# Altium footprint library branding.PcbLib: 2 footprints
Each footprint in its own frame and in the unit in brackets; x right, y up, seen from the top. Pads: shape width x height; smd on the part's side, far side on the other; paste and mask are expansions set on the pad; w line width, h text height; cw(c..) or ccw(c..) is an arc to the next point about the centre after c.
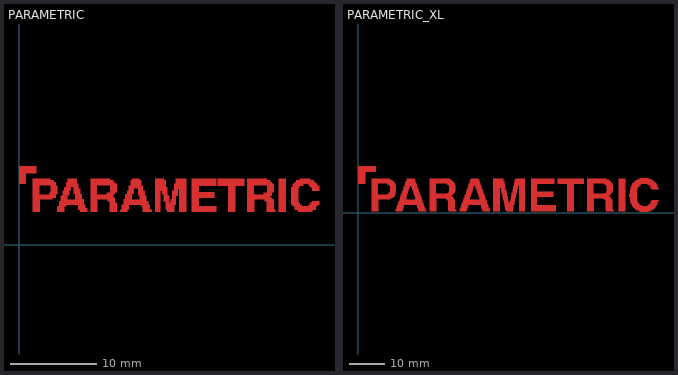
[diagram p0: the footprints below, top view; thin cyan lines are the x and y axes]

## PARAMETRIC [mm]
Top Layer:
  region: 19.507,7.482 19.507,7.279 19.507,7.076 19.507,6.872 19.507,6.669 19.507,6.466 19.507,6.263 19.507,6.06 19.507,5.856 19.507,5.653 19.507,5.45 19.507,5.247 19.507,5.044 19.507,4.84 19.507,4.637 19.507,4.434 19.507,4.231 19.507,4.028 19.507,3.824 18.694,3.824 18.694,4.028 18.694,4.231 18.694,4.434 18.694,4.637 18.694,4.84 18.694,5.044 18.694,5.247 18.694,5.45 18.694,5.653 18.694,5.856 18.694,6.06 18.694,6.263 18.694,6.466 18.491,6.466 18.491,6.263 18.491,6.06 18.491,5.856 18.491,5.653 18.288,5.653 18.288,5.45 18.288,5.247 18.288,5.044 18.288,4.84 18.288,4.637 18.085,4.637 18.085,4.434 18.085,4.231 18.085,4.028 18.085,3.824 17.272,3.824 17.272,4.028 17.069,4.028 17.069,4.231 17.069,4.434 17.069,4.637 17.069,4.84 17.069,5.044 16.866,5.044 16.866,5.247 16.866,5.45 16.866,5.653 16.866,5.856 16.662,5.856 16.662,6.06 16.662,6.263 16.459,6.263 16.459,6.06 16.459,5.856 16.459,5.653 16.459,5.45 16.459,5.247 16.459,5.044 16.459,4.84 16.459,4.637 16.459,4.434 16.459,4.231 16.459,4.028 16.459,3.824 15.85,3.824 15.85,4.028 15.85,4.231 15.85,4.434 15.85,4.637 15.85,4.84 15.85,5.044 15.85,5.247 15.85,5.45 15.85,5.653 15.85,5.856 15.85,6.06 15.85,6.263 15.85,6.466 15.85,6.669 15.85,6.872 15.85,7.076 15.85,7.279 15.85,7.482 15.85,7.685 16.866,7.685 16.866,7.482 17.069,7.482 17.069,7.279 17.069,7.076 17.069,6.872 17.069,6.669 17.272,6.669 17.272,6.466 17.272,6.263 17.272,6.06 17.272,5.856 17.272,5.653 17.475,5.653 17.475,5.45 17.475,5.247 17.475,5.044 17.475,4.84 17.678,4.84 17.678,5.044 17.678,5.247 17.882,5.247 17.882,5.45 17.882,5.653 17.882,5.856 17.882,6.06 17.882,6.263 18.085,6.263 18.085,6.466 18.085,6.669 18.085,6.872 18.085,7.076 18.288,7.076 18.288,7.279 18.288,7.482 18.288,7.685 19.507,7.685
  region: 28.854,7.482 29.261,7.482 29.261,7.279 29.464,7.279 29.464,7.076 29.667,7.076 29.667,6.872 29.667,6.669 29.667,6.466 29.667,6.263 29.667,6.06 29.464,6.06 29.464,5.856 29.464,5.653 29.261,5.653 29.261,5.45 29.464,5.45 29.464,5.247 29.667,5.247 29.667,5.044 29.667,4.84 29.667,4.637 29.667,4.434 29.667,4.231 29.667,4.028 29.87,4.028 29.87,3.824 28.854,3.824 28.854,4.028 28.854,4.231 28.854,4.434 28.854,4.637 28.854,4.84 28.854,5.044 28.651,5.044 28.651,5.247 27.432,5.247 27.432,5.044 27.432,4.84 27.432,4.637 27.432,4.434 27.432,4.231 27.432,4.028 27.432,3.824 26.619,3.824 26.619,4.028 26.619,4.231 26.619,4.434 26.619,4.637 26.619,4.84 26.619,5.044 26.619,5.247 26.619,5.45 26.619,5.653 26.619,5.856 26.619,6.06 26.619,6.263 26.619,6.466 26.619,6.669 26.619,6.872 26.619,7.076 26.619,7.279 26.619,7.482 26.619,7.685 28.854,7.685 hole: 28.854,6.872 27.432,6.872 27.432,6.669 27.432,6.466 27.432,6.263 27.432,6.06 27.432,5.856 28.448,5.856 28.448,6.06 28.854,6.06 28.854,6.263 28.854,6.466 28.854,6.669
  region: 10.566,7.482 10.973,7.482 10.973,7.279 11.176,7.279 11.176,7.076 11.379,7.076 11.379,6.872 11.379,6.669 11.379,6.466 11.379,6.263 11.379,6.06 11.176,6.06 11.176,5.856 10.973,5.856 10.973,5.653 10.973,5.45 11.176,5.45 11.176,5.247 11.176,5.044 11.176,4.84 11.379,4.84 11.379,4.637 11.379,4.434 11.379,4.231 11.379,4.028 11.379,3.824 10.566,3.824 10.566,4.028 10.566,4.231 10.566,4.434 10.566,4.637 10.566,4.84 10.566,5.044 10.363,5.044 10.363,5.247 9.144,5.247 9.144,5.044 9.144,4.84 9.144,4.637 9.144,4.434 9.144,4.231 9.144,4.028 9.144,3.824 8.331,3.824 8.331,4.028 8.331,4.231 8.331,4.434 8.331,4.637 8.331,4.84 8.331,5.044 8.331,5.247 8.331,5.45 8.331,5.653 8.331,5.856 8.331,6.06 8.331,6.263 8.331,6.466 8.331,6.669 8.331,6.872 8.331,7.076 8.331,7.279 8.331,7.482 8.331,7.685 10.566,7.685 hole: 10.566,6.872 9.144,6.872 9.144,6.669 9.144,6.466 9.144,6.263 9.144,6.06 9.144,5.856 10.16,5.856 10.16,6.06 10.566,6.06 10.566,6.263 10.566,6.466 10.566,6.669
  region: 3.658,7.482 4.064,7.482 4.064,7.279 4.267,7.279 4.267,7.076 4.267,6.872 4.47,6.872 4.47,6.669 4.47,6.466 4.47,6.263 4.47,6.06 4.47,5.856 4.267,5.856 4.267,5.653 4.267,5.45 3.861,5.45 3.861,5.247 2.438,5.247 2.438,5.044 2.438,4.84 2.438,4.637 2.438,4.434 2.438,4.231 2.438,4.028 2.438,3.824 1.626,3.824 1.626,4.028 1.626,4.231 1.626,4.434 1.626,4.637 1.626,4.84 1.626,5.044 1.626,5.247 1.626,5.45 1.626,5.653 1.626,5.856 1.626,6.06 1.626,6.263 1.626,6.466 1.626,6.669 1.626,6.872 1.626,7.076 1.626,7.279 1.626,7.482 1.626,7.685 3.658,7.685 hole: 3.658,6.872 2.438,6.872 2.438,6.669 2.438,6.466 2.438,6.263 2.438,6.06 2.438,5.856 3.454,5.856 3.454,6.06 3.658,6.06 3.658,6.263 3.658,6.466 3.658,6.669
  region: 6.706,7.482 6.706,7.279 6.706,7.076 6.909,7.076 6.909,6.872 6.909,6.669 6.909,6.466 7.112,6.466 7.112,6.263 7.112,6.06 7.112,5.856 7.315,5.856 7.315,5.653 7.315,5.45 7.315,5.247 7.518,5.247 7.518,5.044 7.518,4.84 7.518,4.637 7.722,4.637 7.722,4.434 7.722,4.231 7.925,4.231 7.925,4.028 7.925,3.824 7.112,3.824 7.112,4.028 6.909,4.028 6.909,4.231 6.909,4.434 6.909,4.637 5.486,4.637 5.486,4.434 5.283,4.434 5.283,4.231 5.283,4.028 5.283,3.824 4.47,3.824 4.47,4.028 4.47,4.231 4.47,4.434 4.674,4.434 4.674,4.637 4.674,4.84 4.674,5.044 4.877,5.044 4.877,5.247 4.877,5.45 4.877,5.653 5.08,5.653 5.08,5.856 5.08,6.06 5.08,6.263 5.283,6.263 5.283,6.466 5.283,6.669 5.486,6.669 5.486,6.872 5.486,7.076 5.486,7.279 5.69,7.279 5.69,7.482 5.69,7.685 6.706,7.685 hole: 6.299,6.669 6.096,6.669 6.096,6.466 6.096,6.263 5.893,6.263 5.893,6.06 5.893,5.856 5.893,5.653 5.69,5.653 5.69,5.45 5.69,5.247 6.502,5.247 6.502,5.45 6.502,5.653 6.502,5.856 6.299,5.856 6.299,6.06 6.299,6.263 6.299,6.466
  region: 14.021,7.482 14.224,7.482 14.224,7.279 14.224,7.076 14.224,6.872 14.427,6.872 14.427,6.669 14.427,6.466 14.427,6.263 14.63,6.263 14.63,6.06 14.63,5.856 14.63,5.653 14.834,5.653 14.834,5.45 14.834,5.247 14.834,5.044 15.037,5.044 15.037,4.84 15.037,4.637 15.24,4.637 15.24,4.434 15.24,4.231 15.24,4.028 15.443,4.028 15.443,3.824 14.427,3.824 14.427,4.028 14.427,4.231 14.427,4.434 14.224,4.434 14.224,4.637 12.802,4.637 12.802,4.434 12.802,4.231 12.802,4.028 12.598,4.028 12.598,3.824 11.786,3.824 11.786,4.028 11.989,4.028 11.989,4.231 11.989,4.434 11.989,4.637 12.192,4.637 12.192,4.84 12.192,5.044 12.192,5.247 12.395,5.247 12.395,5.45 12.395,5.653 12.395,5.856 12.598,5.856 12.598,6.06 12.598,6.263 12.802,6.263 12.802,6.466 12.802,6.669 12.802,6.872 13.005,6.872 13.005,7.076 13.005,7.279 13.005,7.482 13.208,7.482 13.208,7.685 14.021,7.685 hole: 13.818,6.466 13.411,6.466 13.411,6.263 13.411,6.06 13.411,5.856 13.208,5.856 13.208,5.653 13.208,5.45 13.208,5.247 14.021,5.247 14.021,5.45 14.021,5.653 13.818,5.653 13.818,5.856 13.818,6.06 13.818,6.263
  region: 22.962,7.482 22.962,7.279 22.962,7.076 22.962,6.872 20.93,6.872 20.93,6.669 20.93,6.466 20.93,6.263 20.93,6.06 22.758,6.06 22.758,5.856 22.758,5.653 22.758,5.45 20.93,5.45 20.93,5.247 20.93,5.044 20.93,4.84 20.93,4.637 20.93,4.434 22.962,4.434 22.962,4.231 22.962,4.028 22.962,3.824 20.117,3.824 20.117,4.028 20.117,4.231 20.117,4.434 20.117,4.637 20.117,4.84 20.117,5.044 20.117,5.247 20.117,5.45 20.117,5.653 20.117,5.856 20.117,6.06 20.117,6.263 20.117,6.466 20.117,6.669 20.117,6.872 20.117,7.076 20.117,7.279 20.117,7.482 20.117,7.685 22.962,7.685
  region: 33.934,7.482 34.341,7.482 34.341,7.279 34.544,7.279 34.544,7.076 34.747,7.076 34.747,6.872 34.95,6.872 34.95,6.669 34.95,6.466 34.95,6.263 34.138,6.263 34.138,6.466 34.138,6.669 33.934,6.669 33.934,6.872 33.731,6.872 33.731,7.076 33.122,7.076 33.122,6.872 32.715,6.872 32.715,6.669 32.512,6.669 32.512,6.466 32.512,6.263 32.512,6.06 32.512,5.856 32.512,5.653 32.512,5.45 32.512,5.247 32.512,5.044 32.512,4.84 32.715,4.84 32.715,4.637 32.918,4.637 32.918,4.434 33.731,4.434 33.731,4.637 33.934,4.637 33.934,4.84 34.138,4.84 34.138,5.044 34.95,5.044 34.95,4.84 34.95,4.637 34.747,4.637 34.747,4.434 34.544,4.434 34.544,4.231 34.544,4.028 34.138,4.028 34.138,3.824 32.512,3.824 32.512,4.028 32.106,4.028 32.106,4.231 32.106,4.434 31.902,4.434 31.902,4.637 31.699,4.637 31.699,4.84 31.699,5.044 31.699,5.247 31.699,5.45 31.699,5.653 31.699,5.856 31.699,6.06 31.699,6.263 31.699,6.466 31.699,6.669 31.902,6.669 31.902,6.872 31.902,7.076 32.106,7.076 32.106,7.279 32.309,7.279 32.309,7.482 32.715,7.482 32.715,7.685 33.934,7.685
  region: 26.213,7.482 26.213,7.279 26.213,7.076 26.213,6.872 25.197,6.872 25.197,6.669 25.197,6.466 25.197,6.263 25.197,6.06 25.197,5.856 25.197,5.653 25.197,5.45 25.197,5.247 25.197,5.044 25.197,4.84 25.197,4.637 25.197,4.434 25.197,4.231 25.197,4.028 25.197,3.824 24.384,3.824 24.384,4.028 24.384,4.231 24.384,4.434 24.384,4.637 24.384,4.84 24.384,5.044 24.384,5.247 24.384,5.45 24.384,5.653 24.384,5.856 24.384,6.06 24.384,6.263 24.384,6.466 24.384,6.669 24.384,6.872 23.165,6.872 23.165,7.076 23.165,7.279 23.165,7.482 23.165,7.685 26.213,7.685
  region: 31.09,7.482 31.09,7.279 31.09,7.076 31.09,6.872 31.09,6.669 31.09,6.466 31.09,6.263 31.09,6.06 31.09,5.856 31.09,5.653 31.09,5.45 31.09,5.247 31.09,5.044 31.09,4.84 31.09,4.637 31.09,4.434 31.09,4.231 31.09,4.028 31.09,3.824 30.277,3.824 30.277,4.028 30.277,4.231 30.277,4.434 30.277,4.637 30.277,4.84 30.277,5.044 30.277,5.247 30.277,5.45 30.277,5.653 30.277,5.856 30.277,6.06 30.277,6.263 30.277,6.466 30.277,6.669 30.277,6.872 30.277,7.076 30.277,7.279 30.277,7.482 30.277,7.685 31.09,7.685
  region: 2.032,8.904 2.032,8.701 2.032,8.498 2.032,8.295 0.813,8.295 0.813,8.092 0.813,7.888 0.813,7.685 0.813,7.482 0.813,7.279 0.813,7.076 0,7.076 0,7.279 0,7.482 0,7.685 0,7.888 0,8.092 0,8.295 0,8.498 0,8.701 0,8.904 0,9.108 2.032,9.108
Top Solder:
  drawing of 11 lines, arcs and shapes, not listed

## PARAMETRIC_XL [mm]
Top Layer:
  drawing of 11 lines, arcs and shapes, not listed
Top Solder:
  drawing of 11 lines, arcs and shapes, not listed